# EAGLE library part A5975D (library TEWSBPPTLibrary)
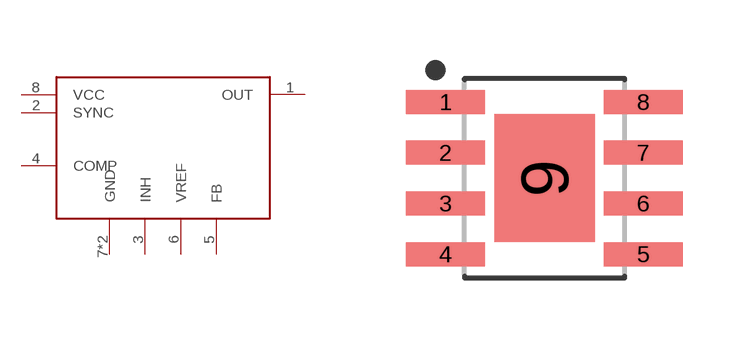
[diagram p3: symbol with the pads of SOIC127P600X170-9T251X320; footprint SOIC127P600X170-9T251X320]

Designator prefix -

## A5975D  [SOIC127P600X170-9T251X320]
1  OUT
2  SYNC
3  INH
4  COMP
5  FB
6  VREF
7  GND
8  VCC
9  GND

## Footprint SOIC127P600X170-9T251X320 (pad centres in mm)
8-SOIC, 1.27 mm pitch, 6.00 mm span, 4.90 X 3.90 X 1.70 mm body, 3.20 X 2.51 mm thermal pad 8-pin SOIC package with 1.27 mm pitch, 6.00 mm span with body size 4.90 X 3.90 X 1.70 mm and thermal pad size 3.20 X 2.51 mm
smd 1.968 x 0.599: 1 -2.473,1.905; 2 -2.473,0.635; 3 -2.473,-0.635; 4 -2.473,-1.905; 5 2.473,-1.905; 6 2.473,-0.635; 7 2.473,0.635; 8 2.473,1.905
smd 2.51 x 3.2: 9 0,0